# Altium schematic symbol library Protection Filters Ferrite_beads.SchLib: 3 symbols
Pins are listed as number, name and electrical type; pins without a type are passive.

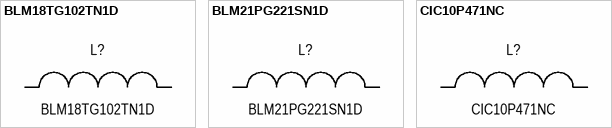
[diagram p0: symbols BLM18TG102TN1D to CIC10P471NC]

## BLM18TG102TN1D
designator L?
Ferrite bead 100mA 0603(1608); Manufacturer: Samsung Electro-Mechanics; Group: Power; Current Rating: 1.7A; DC Resistance: 470mOhm; Impedance/Frequency: 1kOhm/100MHz; Component: Protection Filter Ferrite_beads; Part name: BLM18TG102TN1D; Package: 0603 (1608); Dimension: 1.60mm x 0.80mm; Operating temperature: -55°C +125°C; Height: 0.70mm; Mounting type: Surface mount
footprint FRBC1608N
pins: 1, 2

## BLM21PG221SN1D
designator L?
Ferrite bead 2A 0805(2012); Manufacturer: Murata Electronics; Group: Power; Current Rating: 2.0A; DC Resistance: 470mOhm; Impedance/Frequency: 220Ohms/00MHz; Component: Protection Filter Ferrite_beads; Part name: BLM21PG221SN1D; Package: 0805 (2012); Dimension: 2.00mm x 1.25mm; Operating temperature: -55°C +125°C; Height: 1.05mm; Mounting type: Surface mount
footprint FRBC2012N
pins: 1, 2

## CIC10P471NC
designator L?
Ferrite bead 1.2A 0603(1608); Manufacturer: Samsung Electro-Mechanics; Group: Power; Current Rating: 1.7A; DC Resistance: 150mOhm; Impedance/Frequency: 470Ohm/100MHz; Component: Protection Filter Ferrite_beads; Part name: CIC10P471NC; Package: 0603 (1608); Dimension: 1.60mm x 0.80mm; Operating temperature: -55°C +125°C; Height: 0.95mm; Mounting type: Surface mount
footprint FRBC1608N
pins: 1, 2